# Altium footprint library NR电源板.pcblib: 25 footprints (part 2 of 2)
Each footprint in its own frame and in the unit in brackets; x right, y up, seen from the top. Pads: shape width x height; smd on the part's side, far side on the other; paste and mask are expansions set on the pad; w line width, h text height; cw(c..) or ccw(c..) is an arc to the next point about the centre after c.
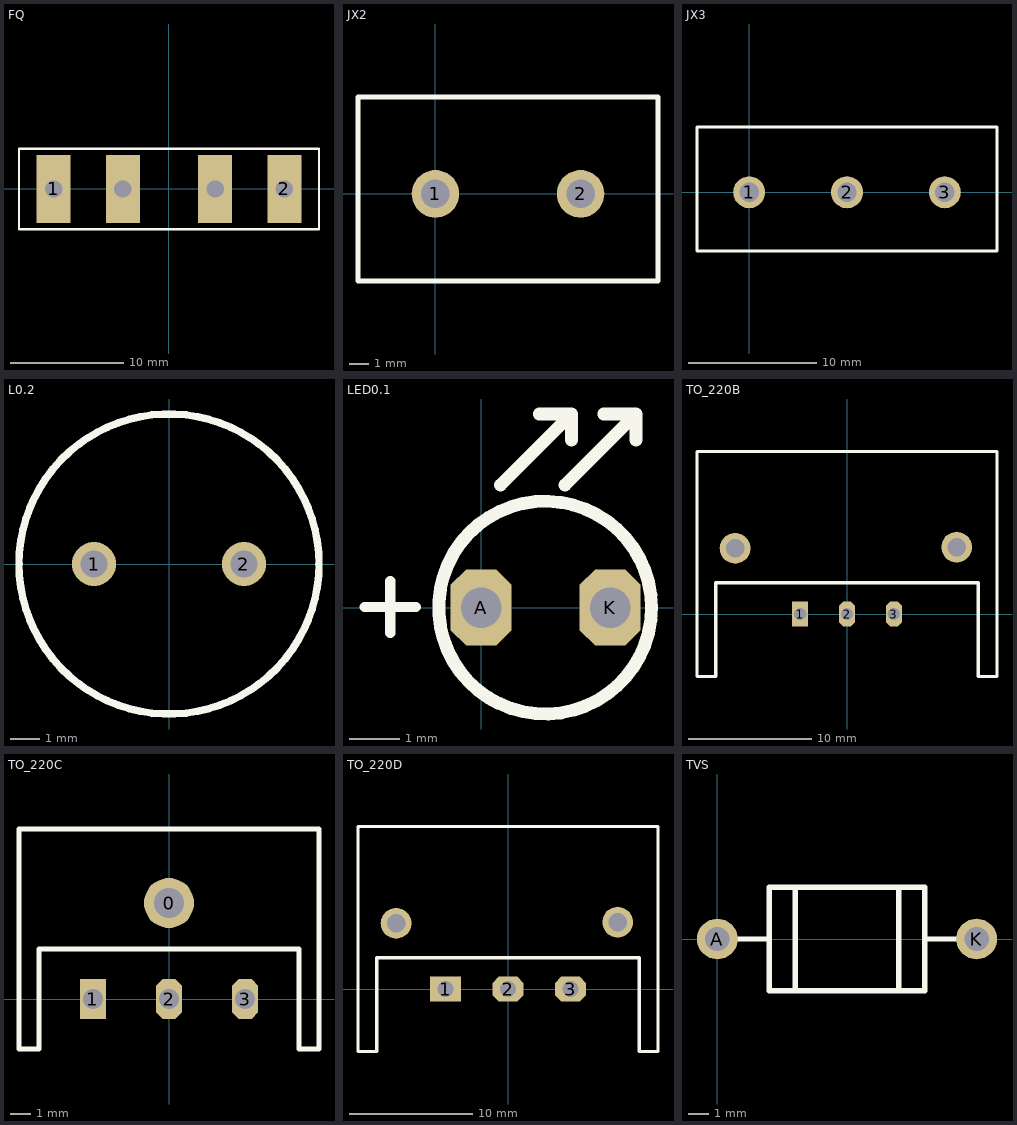
[diagram p1: the footprints below, top view; thin cyan lines are the x and y axes]

## FQ [mm]
pads (4):
  rect 3x6 hole 1.524: 1(-10.16,0) 2(10.16,0) ""(-4.064,0) ""(4.064,0)
TopOverlay:
  lines w0.2: -13.208,-3.556 13.208,-3.556 13.208,3.556 -13.208,3.556 -13.208,-3.556

## JX2 [mm]
pads (2):
  round 2.5 hole 1.5: 1(0,0) 2(7.62,0)
TopOverlay:
  lines w0.254: -4.064,-4.572 -4.064,5.08 11.684,5.08 11.684,-4.572 -4.064,-4.572

## JX3 [mm]
pads (3):
  round 2.5 hole 1.5: 1(0,0) 2(7.62,0) 3(15.24,0)
TopOverlay:
  lines w0.254: -4.064,-4.572 -4.064,5.08 19.304,5.08 19.304,-4.572 -4.064,-4.572

## L0.2 [mm]
pads (2):
  round 1.5 hole 0.914: 1(-2.54,0) 2(2.54,0)
TopOverlay:
  circle w0.254: c0,0 r5.08

## LED0.1 [mm]
pads (2):
  oct 1.2x1.5 hole 0.8: A(0,0) K(2.54,0)
TopOverlay:
  circle w0.254: c1.259,0 r2.095
  lines w0.2: -2.297,0.01 -1.789,0.01 -1.281,0.01 ; -1.789,-0.498 -1.789,0.518
  lines w0.254: 0.381,2.413 1.778,3.81 ; 1.143,3.81 1.778,3.81 ; 1.651,2.413 3.048,3.81 ; 1.778,3.302 1.778,3.81 ; 2.413,3.81 3.048,3.81 ; 3.048,3.302 3.048,3.81

## TO_220B [mm]
pads (5):
  rect 1.3x2 hole 1: 1(-3.81,0)
  oct 1.3x2 hole 1: 2(0,0) 3(3.81,0)
  round 2.5 hole 1.5: ""(-9.098,5.338) ""(8.911,5.44)
TopOverlay:
  lines w0.254: -12.192,-5.076 -10.668,-5.076 -10.668,2.54 10.668,2.54 10.668,-5.076 12.192,-5.076 12.192,13.212 -12.192,13.212 -12.192,-5.076

## TO_220C [mm]
pads (4):
  round 2.5 hole 1.5: 0(0,4.8)
  rect 1.3x2 hole 1: 1(-3.81,0)
  oct 1.3x2 hole 1: 2(0,0) 3(3.81,0)
TopOverlay:
  lines w0.254: -7.5,-2.5 -6.5,-2.5 -6.5,2.5 6.5,2.5 6.5,-2.5 7.5,-2.5 7.5,8.5 -7.5,8.5 -7.5,-2.5

## TO_220D [mm]
pads (5):
  rect 2.5x2 hole 1.3: 1(-5.08,0)
  oct 2.5x2 hole 1.3: 2(0,0) 3(5.08,0)
  round 2.5 hole 1.5: ""(-9.098,5.338) ""(8.911,5.44)
TopOverlay:
  lines w0.254: -12.192,-5.076 -10.668,-5.076 -10.668,2.54 10.668,2.54 10.668,-5.076 12.192,-5.076 12.192,13.212 -12.192,13.212 -12.192,-5.076

## TVS [mm]
pads (2):
  round 2 hole 1.2: A(0,0) K(12.7,0)
TopOverlay:
  lines w0.254: 0,0 2.54,0 ; 3.81,-2.54 3.81,2.54 ; 8.89,-2.54 8.89,2.54 ; 10.16,0 12.7,0 ; 2.54,-2.54 10.16,-2.54 10.16,2.54 2.54,2.54 2.54,-2.54